# Altium schematic symbol library EAGLE_Imported.SCHLIB: 2 symbols
Pins are listed as number, name and electrical type; pins without a type are passive.

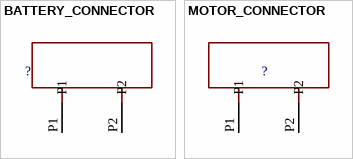
[diagram p0: symbols BATTERY_CONNECTOR to MOTOR_CONNECTOR]

## BATTERY_CONNECTOR
designator ?
footprint BATTERY_CONNECOR
pins: P1, P2

## MOTOR_CONNECTOR
designator ?
footprint MOTOR_CONNECTOR
pins: P1, P2